# EAGLE library part BGS13SN8E6327XTSA1 (library BGS13SN8E6327XTSA1)
INFINEON - BGS13SN8E6327XTSA1 - RF SWITCH, SP3T, 0.1-6GHZ, TSNP-8 Source: Datasheet <https://www.infineon.com/dgdl/Infineon-BGS13SN8-DS-v02_02-EN.pdf?fileId=5546d462584d1d4a0158cf52e3ae03a7>
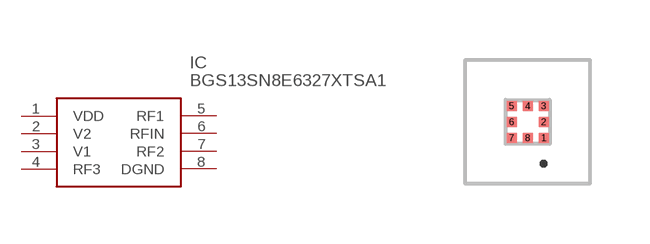
[diagram p0: symbol with the pads of BGS13SN8E6327XTSA1; footprint BGS13SN8E6327XTSA1]

Designator prefix IC

## BGS13SN8E6327XTSA1 (DESCRIPTION: INFINEON - BGS13SN8E6327XTSA1 - RF SWITCH, SP3T, 0.1-6GHZ, TSNP-8; HEIGHT: 0.4mm; MANUFACTURER_NAME: Infineon; MANUFACTURER_PART_NUMBER: BGS13SN8E6327XTSA1)  [BGS13SN8E6327XTSA1]
1  VDD
2  V2
3  V1
4  RF3
5  RF1
6  RFIN
7  RF2
8  DGND

## Footprint BGS13SN8E6327XTSA1 (pad centres in mm)
TSNP-8-1
smd 0.25 x 0.25: 1 0.4,-0.4; 2 0.4,0; 3 0.4,0.4; 4 0,0.4; 5 -0.4,0.4; 6 -0.4,0; 7 -0.4,-0.4; 8 0,-0.4